# Altium integrated library Miscellaneous Parts.IntLib: 14 symbols
Pins are listed as number, name and electrical type; pins without a type are passive.

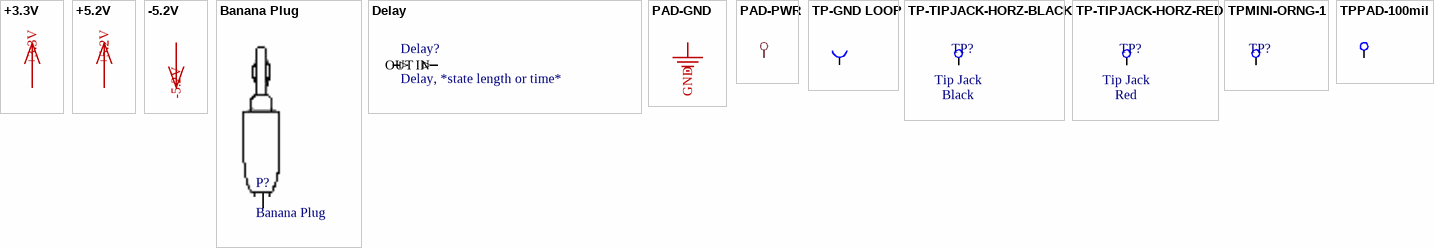
[diagram p0: symbols +3.3V to TPPAD-100mil]

## +3.3V
designator P?  (value not drawn)
Power, PAD, small, 0805
footprint PAD, 0805 (PAD, 0.08" x 0.05", Source)
pins: 1 +3.3V (power)

## +5.2V
designator P?  (value not drawn)
Power, PAD, small, 0805
footprint PAD, 0805 (PAD, 0.08" x 0.05", Source)
pins: 1 +5.2V (power)

## -5.2V
designator P?  (value not drawn)
Power, PAD, small. 0805
footprint PAD, 0805 (PAD, 0.08" x 0.05", Source)
pins: 1 -5.2V (power)

## Banana Plug
designator P?
Banana Plug, uninsulated, panel mount; ManufacturerPartNumber: 108-0750-001; Manufacturer: Cinch Connectivity Solutions; Wire Gauge: 14 AWG; Body Material: Brass, Nickel Plating; Insulation: Non-Insulated; Gender: Male; Supplier 1: Allied; Supplier Part Number 1: 70090214; Supplier 2: Newark; Supplier Part Number 2: 39F888; Supplier 3: Mouser; Supplier Part Number 3: 530-108-0750-1; Supplier 4: Digi-Key; Supplier Part Number 4: J148-ND; Contact Finish: Nickel; Contact Material: Nickel Silver; Operating Temperature: -55C to +85C; Termination: Threaded, External (Nut); Mounting Type: Panel Mount; Type: Banana Plug
footprint HOLE, #6 (Hole, plated through, fits #6 screw, 5/32" diam)
pins: 1

## Delay
designator Delay?, comment Delay, *state length or time*
Signal Delay, coiled wire, length depends on application
footprint Delay (Delay, coiled wire, length varies)
pins: 1 IN (in), 2 OUT (out)

## PAD-GND
designator P?  (value not drawn)  (no BOM)
Power pad, Various sizes
footprint PAD, 2512 (PAD, 0.25" x 0.12", Source)
footprint PAD, 1210 (PAD, 0.12" x 0.10", Source)
footprint PAD, 0805 (PAD, 0.08" x 0.05", Source)
pins: 1 GND (power)

## PAD-PWR
designator P?  (value not drawn)  (no BOM)
Power Pad, Various Sizes
footprint PAD, 0.3" x 0.15" (PAD, 0.3" x 0.15", Source)
footprint PAD, 2512 (PAD, 0.25" x 0.12", Source)
footprint PAD, 1210 (PAD, 0.12" x 0.10", Source)
footprint PAD, 0805 (PAD, 0.08" x 0.05", Source)
pins: 1

## TP-GND LOOP
designator *  (value not drawn)  (no BOM)
Test Point, Ground Loop (16AWG Bus Wire)
footprint TESTPOINT-LOOP-18AWG (Testpoint, bus wire loop, 18AWG)
pins: 1 GND

## TP-TIPJACK-HORZ-BLACK
designator TP?, comment Color: Black  Type: Tip Jack  (hidden comment: Testpoint Black)
Testpoint, Jack, horizontal, black; Jack Diameter: 2mm; Current Rating: 5A; Gender: Female; Insulation: Mating End Insulated; Mounting Type: Through Hole, horizontal; Contact Material: Copper Aluminum Alloy; Supplier 1: Digi-Key; Supplier Part Number 1: J577-ND; Supplier 2: Mouser; Supplier Part Number 2: 530-105-1103-1
footprint Testpoint-jack,horizontal (Testpoint Jack, thru-hole)
pins: 1

## TP-TIPJACK-HORZ-RED
designator TP?, comment Color: Red  Type: Tip Jack  (hidden comment: Testpoint Red)
Testpoint, Jack, horizontal, red; Jack Diameter: 2mm; Current Rating: 5A; Gender: Female; Insulation: Mating End Insulated; Mounting Type: Through Hole, horizontal; Contact Material: Copper Aluminum Alloy; Supplier 1: Digi-Key; Supplier Part Number 1: J576-ND; Supplier 2: Newark; Supplier Part Number 2: 81F4446
footprint Testpoint-jack,horizontal (Testpoint Jack, thru-hole)
pins: 1

## TPMINI-ORNG-1
designator TP?, comment 5003  (value not drawn)
Mini Test Point, Orange, 0.040"D; Manufacturer: Keystone Electronics; Mounting Type: Through Hole - 0.040" (1.02mm) Hole Diameter; Colour: Orange; Terminal: 0.010" x 0.020" (0.25mm x 0.51mm) Phosphor Bronze Wire, Silver Plated; PackageName: TestPoint-THM-MINI; PackageDescription: Test point mounting hole, 0.040" (1.0) Diameter; Supplier 1: Mouser; Supplier Part Number 1: 534-5003; Supplier 2: Newark; Supplier Part Number 2: 62W5137; Supplier 3: Digi-Key; Supplier Part Number 3: 36-5003-ND; Part Number: 5003
footprint TestPoint-THM-MINI (Test point mounting hole, 0.040" (1.0) Diameter)
3D model KEYSTONE-testpoint (PCB3D Model)
pins: 1

## TPPAD-100mil
designator TP?, comment 100 mil test point pad  (value not drawn)  (no BOM)
100 mil pad, test point, round
footprint PAD, ROUND, 100mil (Round Pad, 100mil diameter)
pins: 1


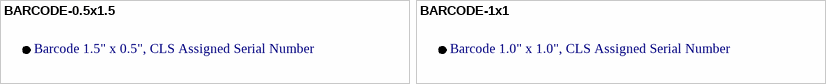
[diagram p1: symbols BARCODE-0.5x1.5 to BARCODE-1x1]

## BARCODE-0.5x1.5
designator *  (value not drawn)
Barcode 1.5" x 0.5", CLS Assigned Serial Number; QTY: *
footprint Barcode-1.5 in x 0.5 (Barcode label, space for a CLS issued barcode of size 1.5" x 0.5")

## BARCODE-1x1
designator *  (value not drawn)
Barcode 1.0" x 1.0", CLS Assigned Serial Number; QTY: *
footprint BARCODE1.0 in x 1.0 (Barcode label, space for a CLS issued barcode of size 1.0" x 1.0")